# EAGLE library part ADA4304-4ACPZ-RL (library Analog Devices)
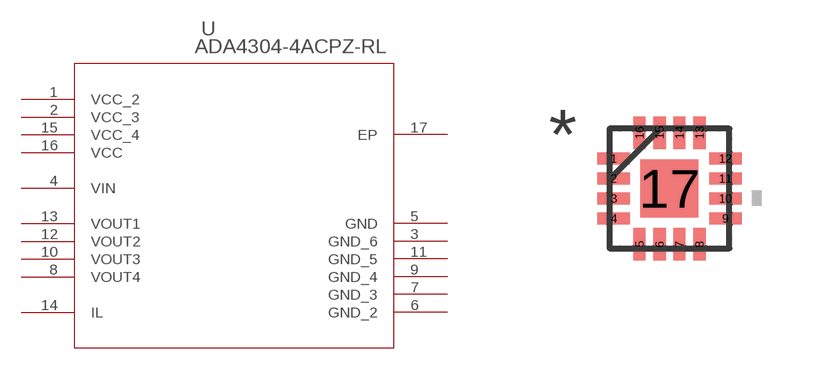
[diagram p12: symbol with the pads of CP_16_2; footprint CP_16_2]

Designator prefix U

## ADA4304-4ACPZ-RL  [CP_16_2]
1  VCC_2  pwr
2  VCC_3  pwr
3  GND_6  pas
4  VIN  in
5  GND  pas
6  GND_2  pas
7  GND_3  pas
8  VOUT4  out
9  GND_4  pas
10  VOUT3  out
11  GND_5  pas
12  VOUT2  out
13  VOUT1  out
14  IL  pas
15  VCC_4  pwr
16  VCC  pwr
17  EP  pas

## Footprint CP_16_2 (pad centres in mm)
smd 0.813 x 0.305: 1 -1.397,0.75; 2 -1.397,0.25; 3 -1.397,-0.25; 4 -1.397,-0.75; 9 1.397,-0.75; 10 1.397,-0.25; 11 1.397,0.25; 12 1.397,0.75
smd 0.305 x 0.813: 5 -0.75,-1.397; 6 -0.25,-1.397; 7 0.25,-1.397; 8 0.75,-1.397; 13 0.75,1.397; 14 0.25,1.397; 15 -0.25,1.397; 16 -0.75,1.397
smd 1.448 x 1.448: 17 0,0